# EAGLE library part ADS1115_BO (library !Redox)
ADS1115 breakout board. 16-bit ADC, 1x10 through hole (pin header)
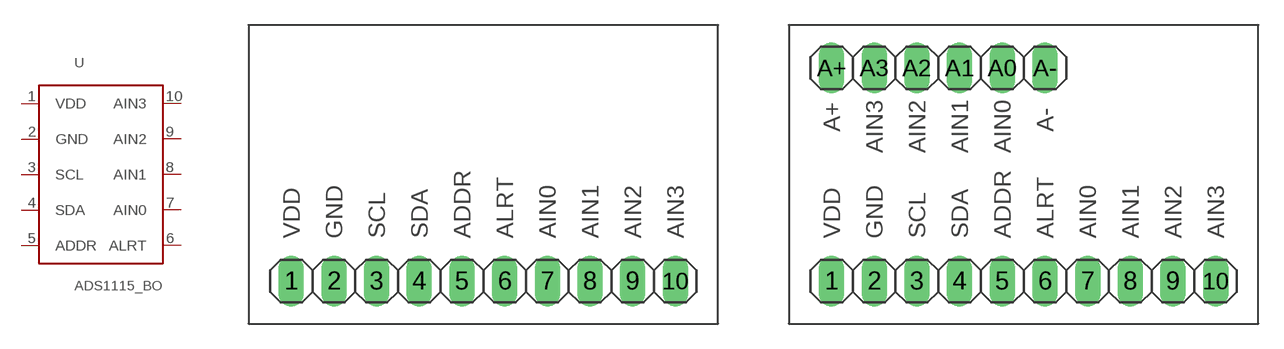
[diagram p1: symbol with the pads of ADS1115_V1; footprints ADS1115_V1, ADS1115_V2]

Designator prefix U

## ADS1115_BO  [ADS1115_V1]
1  VDD
2  GND
3  SCL
4  SDA
5  ADDR
6  ALRT
7  AIN0
8  AIN1
9  AIN2
10  AIN3

## ADS1115_BOV2  [ADS1115_V2]
1  VDD
2  GND
3  SCL
4  SDA
5  ADDR
6  ALRT
7  AIN0
8  AIN1
9  AIN2
10  AIN3
A0  AIN0
A1  AIN1
A2  AIN2
A3  AIN3

## Footprint ADS1115_V1 (pad centres in mm)
PIN HEADER
drill 1.016 long: 1 -11.43,0; 2 -8.89,0; 3 -6.35,0; 4 -3.81,0; 5 -1.27,0; 6 1.27,0; 7 3.81,0; 8 6.35,0; 9 8.89,0; 10 11.43,0

## Footprint ADS1115_V2 (pad centres in mm)
PIN HEADER
drill 1.016 long: 1 -11.43,0; 2 -8.89,0; 3 -6.35,0; 4 -3.81,0; 5 -1.27,0; 6 1.27,0; 7 3.81,0; 8 6.35,0; 9 8.89,0; 10 11.43,0; A0 -1.27,12.7; A1 -3.81,12.7; A2 -6.35,12.7; A3 -8.89,12.7; A+ -11.43,12.7; A- 1.27,12.7